# Altium schematic symbol library WT41.SchLib: 1 symbol
Pins are listed as number, name and electrical type; pins without a type are passive.

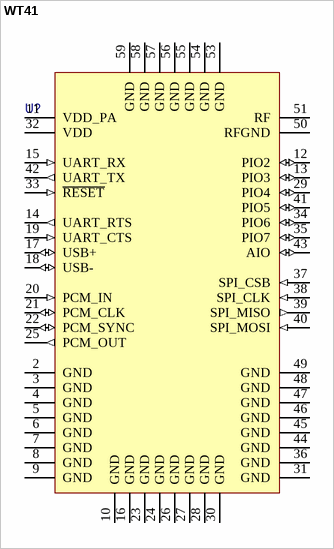
[diagram p0: symbol WT41]

## WT41
designator U?
pins: 2 GND (power), 3 GND (power), 4 GND (power), 5 GND (power), 6 GND (power), 7 GND (power), 8 GND (power), 9 GND (power), 10 GND (power), 11 VDD_PA (power), 12 PIO2 (io), 13 PIO3 (io), 14 UART_RTS (out), 15 UART_RX (in), 16 GND (power), 17 USB+ (io), 18 USB- (io), 19 UART_CTS (in), 20 PCM_IN (in), 21 PCM_CLK (io), 22 PCM_SYNC (io), 23 GND (power), 24 GND (power), 25 PCM_OUT (out), 26 GND (power), 27 GND (power), 28 GND (power), 29 PIO4 (io), 30 GND (power), 31 GND (power), 32 VDD (power), 33 ~{RESET} (in), 34 PIO6 (io), 35 PIO7 (io), 36 GND (power), 37 SPI_CSB (in), 38 SPI_CLK (in), 39 SPI_MISO (out), 40 SPI_MOSI (in), 41 PIO5 (io), 42 UART_TX (out), 43 AIO (io), 44 GND (power), 45 GND (power), 46 GND (power), 47 GND (power), 48 GND (power), 49 GND (power), 50 RFGND, 51 RF, 53 GND (power), 54 GND (power), 55 GND (power), 56 GND (power), 57 GND (power), 58 GND (power), 59 GND (power)